# Altium footprint library RES025W.PcbLib: 1 footprints
Each footprint in its own frame and in the unit in brackets; x right, y up, seen from the top. Pads: shape width x height; smd on the part's side, far side on the other; paste and mask are expansions set on the pad; w line width, h text height; cw(c..) or ccw(c..) is an arc to the next point about the centre after c.
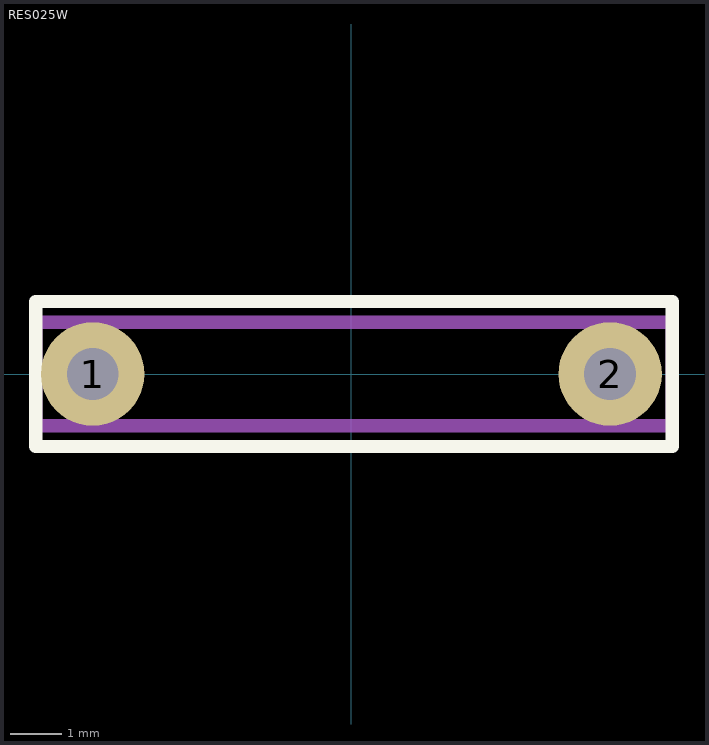
[diagram p0: the footprint, top view; thin cyan lines are the x and y axes]

## RES025W [mm]
pads (2):
  round 2 hole 1: 1(-5,0) 2(5,0)
Top Overlay:
  lines w0.254: -6.1,-1.4 6.2,-1.4 6.2,1.4 -6.1,1.4 -6.1,-1.4
Top Assembly:
  lines w0.254: -6.1,-1 6.2,-1 6.2,1 -6.1,1 -6.1,-1
  text "'.Designator'" at 0,0 h0.7
3D body "User Library-4W.STEP": height 2.55, standoff -2.5, extent -5.325,-1.241 5.325,1.241